# EAGLE library part GPS-72 (library GPS Receivers)
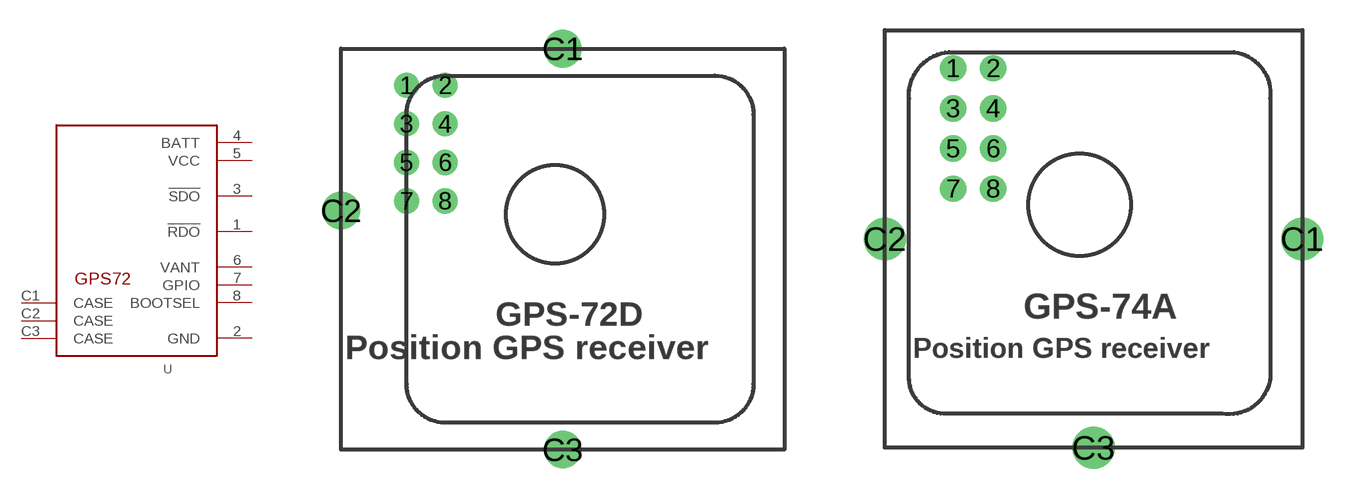
[diagram p1: symbol with the pads of GPS-72D; footprints GPS-72D, GPS-74A]

Designator prefix U

## GPS-72GPS-72D  [GPS-72D]
1  !RDO  in
2  GND  pwr
3  !SDO  out
4  BATT  pwr
5  VCC  pwr
6  VANT  nc
7  GPIO  nc
8  BOOTSEL  nc
C1  CASE
C2  CASE
C3  CASE

## GPS-72GPS-74A  [GPS-74A]
Pads as for GPS-72D

## Footprint GPS-72D (pad centres in mm)
GPS-72D (Position's GPS receiver)
drill 0.8: 1 -8.1,8.5; 2 -6.1,8.5; 3 -8.1,6.5; 4 -6.1,6.5; 5 -8.1,4.5; 6 -6.1,4.5; 7 -8.1,2.5; 8 -6.1,2.5
drill 1.3: C1 0,10.4; C2 -11.5,2; C3 0,-10.4

## Footprint GPS-74A (pad centres in mm)
drill 0.8: 1 -7,8.5; 2 -5,8.5; 3 -7,6.5; 4 -5,6.5; 5 -7,4.5; 6 -5,4.5; 7 -7,2.5; 8 -5,2.5
drill 1.4: C1 10.4,0; C2 -10.4,0; C3 0,-10.4